# Altium schematic symbol library shutdown_circuit.SchLib: 45 symbols (part 1 of 3)
Pins are listed as number, name and electrical type; pins without a type are passive.

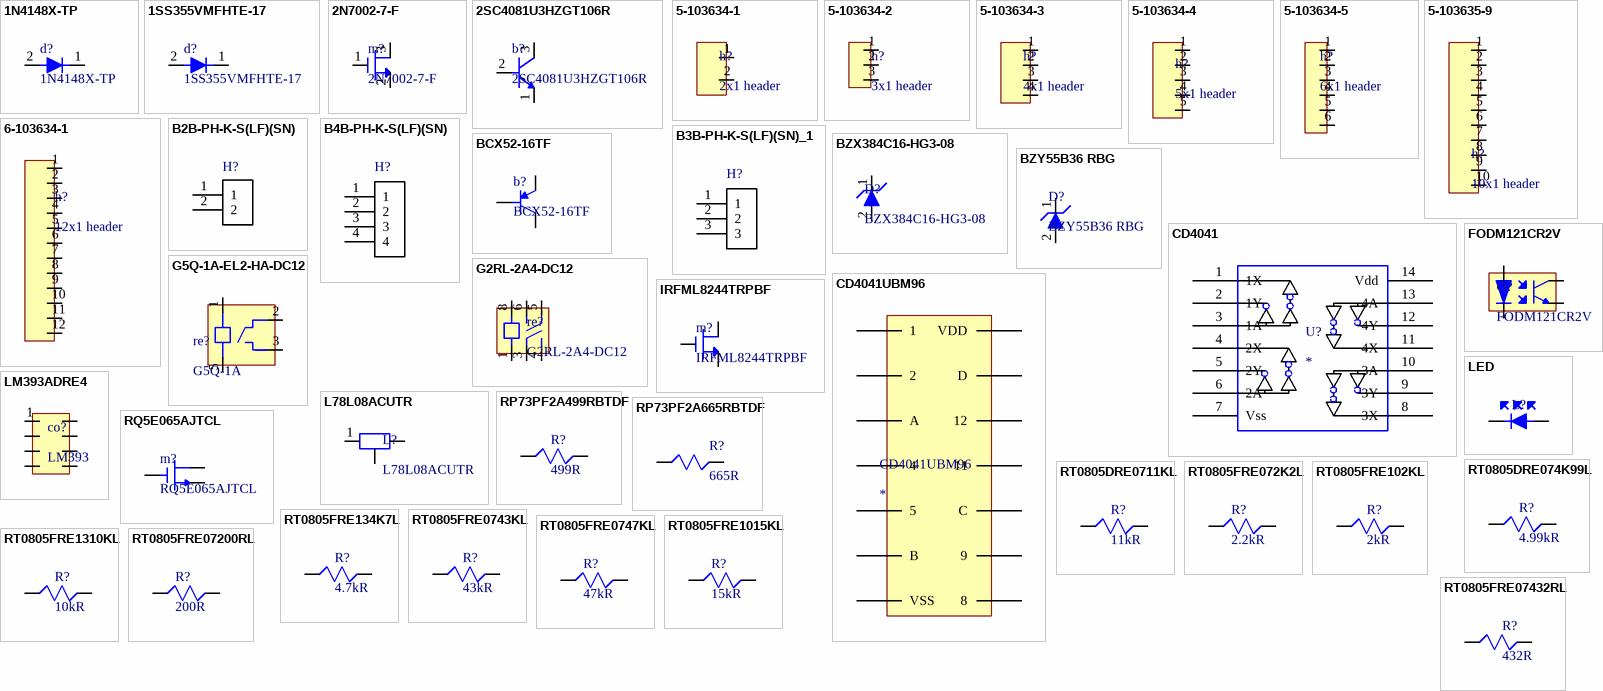
[diagram p0: symbols 1N4148X-TP to RT0805FRE07432RL]

## 1N4148X-TP
designator d?
1N4148X Series 100 V 300 mA 4 ns SMT High Speed Switching Diode - SOD-523; Manufacturer: MCC; Max Surge Current: 2A; Recovery Time: 4ns; Forward Voltage: 1.25V; Forward Current: 300mA; Average Rectified Current: 150mA; Max Reverse Leakage Current: 1uA; Power Dissipation: 200mW; Max Repetitive Reverse Voltage (Vrrm): 100V; Element Configuration: Single; Polarity: Standard; Voltage Rating (DC): 75V; Capacitance: 2pF; Supplier 1: Mouser; Supplier Part Number 1: 833-1N4148X-TP; Manufacturer Part Number: 1N4148X-TP; Stock 1: 130254; Pricing 1: 1 = 0.13000, 10 = 0.11900, 100 = 0.03900, 1000 = 0.02700, 2500 = 0.02300, 8000 = 0.01900 (USD); Mount: Surface Mount; Number of Pins: 2; Min Operating Temperature: -65°C; Max Operating Temperature: 150°C; Package Quantity: 1; Packaging: Tape and Reel; Reverse Recovery Time: 4ns; Peak Non-Repetitive Surge Current: 2A; Current Rating: 150mA; Output Current: 300mA; Max Reverse Voltage (DC): 75V; Radiation Hardening: No; Lead Free: Lead Free; ComponentLink1URL: https://datasheet.ciiva.com/4435/1n4148xsod-523-358-4435190.pdf?src-supplier=Mouser; ComponentLink1Description: https://datasheet.ciiva.com/4435/1n4148xsod-523-358-4435190.pdf?src-supplier=Mouser; ComponentLink2URL: https://datasheet.ciiva.com/911/1n4148xsod-523-911686.pdf?src-supplier=Digi-Key; ComponentLink2Description: https://datasheet.ciiva.com/911/1n4148xsod-523-911686.pdf?src-supplier=Digi-Key; ComponentLink3URL: https://datasheet.ciiva.com/911/1n4148xsod-523-911687.pdf?src-supplier=Digi-Key; ComponentLink3Description: https://datasheet.ciiva.com/911/1n4148xsod-523-911687.pdf?src-supplier=Digi-Key; ComponentLink4URL: https://datasheet.ciiva.com/911/1n4148xsod-523-911688.pdf?src-supplier=Digi-Key; ComponentLink4Description: https://datasheet.ciiva.com/911/1n4148xsod-523-911688.pdf?src-supplier=Digi-Key; ComponentLink5URL: https://datasheet.ciiva.com/16836/1n4148xsod-523-16836299.pdf?src-supplier=Future+Electronics; ComponentLink5Description: https://datasheet.ciiva.com/16836/1n4148xsod-523-16836299.pdf?src-supplier=Future+Electronics; ComponentLink6URL: http://datasheet.octopart.com/1N4148X-TP-Micro-Commercial-datasheet-126568.pdf?src-supplier=Digi-Key; ComponentLink6Description: http://datasheet.octopart.com/1N4148X-TP-Micro-Commercial-datasheet-126568.pdf?src-supplier=Digi-Key; ComponentLink7URL: http://datasheet.octopart.com/1N4148X-TP-MCC-datasheet-11734673.pdf?src-supplier=Arrow; ComponentLink7Description: http://datasheet.octopart.com/1N4148X-TP-MCC-datasheet-11734673.pdf?src-supplier=Arrow; ComponentLink8URL: http://datasheet.octopart.com/1N4148X-TP-Micro-Commercial-datasheet-13686636.pdf?src-supplier=Future+Electronics; ComponentLink8Description: http://datasheet.octopart.com/1N4148X-TP-Micro-Commercial-datasheet-13686636.pdf?src-supplier=Future+Electronics; ComponentLink9URL: http://datasheet.octopart.com/1N4148X-TP-MCC-datasheet-134792311.pdf?src-supplier=TME; ComponentLink9Description: http://datasheet.octopart.com/1N4148X-TP-MCC-datasheet-134792311.pdf?src-supplier=TME; catogory: diode
footprint SODFL160X77-2N (SODFL, 2-Leads, Body 0.80x1.60mm, IPC Medium Density)
pins: 1, 2

## 1SS355VMFHTE-17
designator d?
ROHM         1SS355VMFHTE-17             Small Signal Diode, Single, 90 V, 100 mA, 1.2 V, 4 ns, 500 mA; Max Repetitive Reverse Voltage (Vrrm): 90V; Forward Current: 100mA; Forward Voltage: 1.2V; Reverse Recovery Time: 4ns; Max Forward Surge Current (Ifsm): 500mA; Supplier 1: Mouser; Supplier Part Number 1: 755-1SS355VMFHTE-17; Manufacturer: Rohm; Manufacturer Part Number: 1SS355VMFHTE-17; RoHS: No; Stock 1: 46949; Pricing 1: 1 = 0.31000, 10 = 0.21200, 100 = 0.08900, 1000 = 0.06000, 3000 = 0.04700, 9000 = 0.04700 (USD); Case/Package: SOD; Number of Pins: 2; Max Operating Temperature: 150°C; Packaging: Cut Tape; Element Configuration: Single; REACH SVHC: Unknown; ComponentLink1URL: http://www.farnell.com/datasheets/2296360.pdf?src-supplier=Farnell; ComponentLink1Description: http://www.farnell.com/datasheets/2296360.pdf?src-supplier=Farnell; ComponentLink2URL: http://www.farnell.com/datasheets/2021474.pdf?src-supplier=Farnell; ComponentLink2Description: http://www.farnell.com/datasheets/2021474.pdf?src-supplier=Farnell; ComponentLink3URL: https://www.rohm.com/datasheet/1SS355VMFH/1ss355vmfhte-17-e?src-supplier=Digi-Key; ComponentLink3Description: https://www.rohm.com/datasheet/1SS355VMFH/1ss355vmfhte-17-e?src-supplier=Digi-Key; ComponentLink4URL: http://www.farnell.com/datasheets/2296360.pdf?src-supplier=Newark; ComponentLink4Description: http://www.farnell.com/datasheets/2296360.pdf?src-supplier=Newark; ComponentLink5URL: http://www.farnell.com/datasheets/2021474.pdf?src-supplier=Element14; ComponentLink5Description: http://www.farnell.com/datasheets/2021474.pdf?src-supplier=Element14; catagory: diode
footprint 1SS355VMFHTE-17
pins: 1 71, 2 70

## 2N7002-7-F
designator m?
Manufacturer: Diodes Inc.; Nominal Vgs: 2.5V; Max Power Dissipation: 300mW; Drain to Source Voltage (Vdss): 60V; Continuous Drain Current (ID): 115mA; Rise Time: 3ns; Rds On Max: 7.5R; Input Capacitance: 50pF; Number of Elements: 1; Drain to Source Breakdown Voltage: 70V; Gate to Source Voltage (Vgs): 20V; Fall Time: 5.6ns; Turn-Off Delay Time: 11ns; Turn-On Delay Time: 7ns; Power Dissipation: 540mW; Element Configuration: Single; Current: 115A; catagory: nmos; Supplier 1: Mouser; Supplier Part Number 1: 621-2N7002-F; Manufacturer Part Number: 2N7002-7-F; Stock 1: 2405582; Pricing 1: 1 = 0.10000, 10 = 0.03800, 100 = 0.02700, 1000 = 0.02700, 3000 = 0.02700, 9000 = 0.02500, 24000 = 0.02300, 45000 = 0.02000, 99000 = 0.01900 (USD); Mount: Surface Mount; Case/Package: SOT-23; Number of Pins: 3; Weight: 0.000282oz; Contact Plating: Tin; Min Operating Temperature: -55°C; Max Operating Temperature: 150°C; Packaging: Tape and Reel; Package Quantity: 3000; Dual Supply Voltage: 60V; Number of Channels: 1; Drain to Source Resistance: 7.5R; On-State Resistance: 7.5R; Threshold Voltage: 2.5V; Termination: SMD/SMT; Voltage Rating (DC): 60V; Current Rating: 115mA; Voltage: 60V; Length: 2.9mm; Height: 1mm; Width: 1.3mm; Radiation Hardening: No; REACH SVHC: No SVHC; Lead Free: Lead Free; ComponentLink1URL: https://datasheet.ciiva.com/3304/ds11303-3304385.pdf?src-supplier=Avnet; ComponentLink1Description: https://datasheet.ciiva.com/3304/ds11303-3304385.pdf?src-supplier=Avnet; ComponentLink2URL: https://datasheet.ciiva.com/15219/getdatasheetpartid-110059-15219667.pdf?src-supplier=Verical; ComponentLink2Description: https://datasheet.ciiva.com/15219/getdatasheetpartid-110059-15219667.pdf?src-supplier=Verical; ComponentLink3URL: https://datasheet.ciiva.com/49020/70437206-49020102.pdf?src-supplier=Allied+Electronics; ComponentLink3Description: https://datasheet.ciiva.com/49020/70437206-49020102.pdf?src-supplier=Allied+Electronics; ComponentLink4URL: https://datasheet.ciiva.com/22712/1915452-22712375.pdf?src-supplier=Element14; ComponentLink4Description: https://datasheet.ciiva.com/22712/1915452-22712375.pdf?src-supplier=Element14; ComponentLink5URL: https://datasheet.ciiva.com/1188/ds11303-1188363.pdf?src-supplier=Element14; ComponentLink5Description: https://datasheet.ciiva.com/1188/ds11303-1188363.pdf?src-supplier=Element14
footprint 2N7002-7-F
pins: 1 54, 2 56, 3 55

## 2SC4081U3HZGT106R
designator b?
General Purpose Transistor NPN 50V 150mA 3-Pin SOT-323 Surface Mount; Manufacturer: Rohm; catogory: bjt; Supplier 1: Mouser; Supplier Part Number 1: 755-SC4081U3HZGT106R; Manufacturer Part Number: 2SC4081U3HZGT106R; Stock 1: 6002; Pricing 1: 1 = 0.32000, 10 = 0.21600, 100 = 0.09000, 1000 = 0.06200, 3000 = 0.04800, 9000 = 0.04800 (USD)
pins: 1 16, 2 14, 3 15

## 5-103634-1
designator h?, comment 2x1 header
Conn Shrouded Header (4 Sides) HDR 2 POS 2.54mm Solder RA Thru-Hole Box/Tube; Manufacturer: TE Connectivity; Manufacturer Part Number: 5-103634-1; Current Rating: 3A; Contact Resistance: 15mR; Number of Positions: 2; Insulation Resistance: 5GR; Voltage Rating: 600V; Connector Type: Plug; Gender: Male; Backwall/Post Interruptions: No (Without); Contact Retention: Yes (With); Plating Thickness: 2.54um; PCB Mount Retention: Without; PCB Mounting Orientation: Right Angle; Row Spacing: 0.1inch; Tail Length: 3.3mm; Approvals: CSA; Supplier 1: Mouser; Supplier Part Number 1: 571-5-103634-1; Stock 1: 4974; Pricing 1: 1 = 0.67000, 10 = 0.56600, 100 = 0.50100, 500 = 0.43900, 1000 = 0.40900, 2500 = 0.36700, 10000 = 0.34500, 25000 = 0.32800 (USD); Mount: Through Hole; Contact Plating: Tin; Contact Material: Brass; Color: Black; Housing Color: Black; Housing Material: Thermoplastic; Contact Shape: Square; Min Operating Temperature: -65°C; Max Operating Temperature: 105°C; Number of Rows: 1; Contact Gender: Male; Package Quantity: 70; Packaging: Rail/Tube; Termination: Crimp; Number of Contacts: 2; Orientation: Right Angle; Mating Alignment: Yes (With); Mating Retention: Yes (With); PCB Mount Alignment: No (Without); Strain Relief: No (Without); Contact Current Rating: 3A; Length: 7.62mm; Height: 0.274inch; Pitch: 2.54mm; Contact Mating Length: 0.23inch; Depth: 13.59mm; Radiation Hardening: No; REACH SVHC: No SVHC; Flammability Rating: UL94 V-0; ELV: Compliant; Lead Free: Lead Free; ComponentLink1URL: https://datasheet.ciiva.com/16318/5-103634-1-16318798.pdf?src-supplier=Future+Electronics; ComponentLink1Description: https://datasheet.ciiva.com/16318/5-103634-1-16318798.pdf?src-supplier=Future+Electronics; ComponentLink2URL: https://datasheet.ciiva.com/7703/1651634-7703466.pdf?src-supplier=Element14; ComponentLink2Description: https://datasheet.ciiva.com/7703/1651634-7703466.pdf?src-supplier=Element14; ComponentLink3URL: https://datasheet.ciiva.com/3118/eng-cs-1307819-section-5-cont-0808-3118262.pdf?src-supplier=Avnet; ComponentLink3Description: https://datasheet.ciiva.com/3118/eng-cs-1307819-section-5-cont-0808-3118262.pdf?src-supplier=Avnet; ComponentLink4URL: https://datasheet.ciiva.com/709/eng-cd-103634-u2-709833.pdf?src-supplier=Digi-Key; ComponentLink4Description: https://datasheet.ciiva.com/709/eng-cd-103634-u2-709833.pdf?src-supplier=Digi-Key; ComponentLink5URL: http://datasheet.octopart.com/5-103634-1-TE-Connectivity-datasheet-11077636.pdf?src-supplier=Newark; ComponentLink5Description: http://datasheet.octopart.com/5-103634-1-TE-Connectivity-datasheet-11077636.pdf?src-supplier=Newark; ComponentLink6URL: http://datasheet.octopart.com/5-103634-1-TE-Connectivity-datasheet-136861139.pdf?src-supplier=ShanghaiCT; ComponentLink6Description: http://datasheet.octopart.com/5-103634-1-TE-Connectivity-datasheet-136861139.pdf?src-supplier=ShanghaiCT; ComponentLink7URL: http://datasheet.octopart.com/5-103634-1-TE-Connectivity-datasheet-8324834.pdf?src-supplier=Master+Electronics; ComponentLink7Description: http://datasheet.octopart.com/5-103634-1-TE-Connectivity-datasheet-8324834.pdf?src-supplier=Master+Electronics; ComponentLink8URL: http://sigma.octopart.com/15108092/technical_drawing/TE-Connectivity-5-103634-1.pdf?src-supplier=TE+Connectivity; ComponentLink8Description: http://sigma.octopart.com/15108092/technical_drawing/TE-Connectivity-5-103634-1.pdf?src-supplier=TE+Connectivity; ComponentLink9URL: http://sigma.octopart.com/101751519/technical_drawing/TE-Connectivity-5-103634-1.pdf?src-supplier=Future+Electronics; ComponentLink9Description: http://sigma.octopart.com/101751519/technical_drawing/TE-Connectivity-5-103634-1.pdf?src-supplier=Future+Electronics; ComponentLink10URL: http://sigma.octopart.com/77852267/technical_drawing/TE-Connectivity-5-103634-1.pdf?src-supplier=TE+Connectivity; ComponentLink10Description: http://sigma.octopart.com/77852267/technical_drawing/TE-Connectivity-5-103634-1.pdf?src-supplier=TE+Connectivity; ComponentLink11URL: http://datasheet.octopart.com/5-103634-1-Agastat-datasheet-13560061.pdf?src-supplier=TE+Connectivity; ComponentLink11Description: http://datasheet.octopart.com/5-103634-1-Agastat-datasheet-13560061.pdf?src-supplier=TE+Connectivity; ComponentLink12URL: http://datasheet.octopart.com/5-103634-1-Tyco-Electronics-datasheet-508243.pdf?src-supplier=Verical; ComponentLink12Description: http://datasheet.octopart.com/5-103634-1-Tyco-Electronics-datasheet-508243.pdf?src-supplier=Verical; ComponentLink13URL: http://datasheet.octopart.com/5-103634-1-Tyco-Electronics-datasheet-8817613.pdf?src-supplier=Verical; ComponentLink13Description: http://datasheet.octopart.com/5-103634-1-Tyco-Electronics-datasheet-8817613.pdf?src-supplier=Verical; ComponentLink14URL: http://datasheet.octopart.com/5-103634-1-TE-Connectivity-datasheet-21140140.pdf?src-supplier=Farnell; ComponentLink14Description: http://datasheet.octopart.com/5-103634-1-TE-Connectivity-datasheet-21140140.pdf?src-supplier=Farnell; catagory: header
footprint *TE_5-103634-1
pins: 1, 2

## 5-103634-2
designator h?, comment 3x1 header
Conn Shrouded Header (4 Sides) HDR 3 POS 2.54mm Solder RA Thru-Hole Automotive Tube; Manufacturer: TE Connectivity; Manufacturer Part Number: 5-103634-2; Contact Resistance: 15mR; Current Rating: 3A; Connector Type: Plug; Number of Positions: 3; Insulation Resistance: 5GR; Voltage Rating: 600V; Gender: Male; Backwall/Post Interruptions: No (Without); Contact Retention: Yes (With); Plating Thickness: 2.54um; PCB Mount Retention: Without; PCB Mounting Orientation: Right Angle; Row Spacing: 0.1inch; Tail Length: 3.3mm; Approvals: CSA; Supplier 1: Mouser; Supplier Part Number 1: 571-5-103634-2; Stock 1: 2067; Pricing 1: 1 = 0.99000, 10 = 0.91200, 100 = 0.80200, 500 = 0.69700, 1000 = 0.62700, 2500 = 0.55500, 10000 = 0.52100, 25000 = 0.49600, 50000 = 0.48300 (USD); Mount: Through Hole; Contact Plating: Tin; Contact Material: Brass; Color: Black; Housing Color: Black; Housing Material: Thermoplastic; Contact Shape: Square; Min Operating Temperature: -65°C; Max Operating Temperature: 105°C; Number of Rows: 1; Packaging: Rail/Tube; Contact Gender: Male; Package Quantity: 52; Termination: Crimp; Number of Contacts: 3; Orientation: Right Angle; Mating Alignment: Yes (With); Mating Retention: Yes (With); PCB Mount Alignment: No (Without); Strain Relief: No (Without); Contact Current Rating: 3A; Length: 0.4inch; Height: 13.59mm; Pitch: 2.54mm; Contact Mating Length: 0.23inch; Depth: 13.59mm; Radiation Hardening: No; REACH SVHC: No SVHC; ELV: Compliant; Lead Free: Lead Free; Flammability Rating: UL94 V-0; ComponentLink1URL: https://datasheet.ciiva.com/16684/eng-ds-4-1773458-0-ampmodu-mte-interconnect-sys-0810-16684821.pdf?src-supplier=Avnet+Europe; ComponentLink1Description: https://datasheet.ciiva.com/16684/eng-ds-4-1773458-0-ampmodu-mte-interconnect-sys-0810-16684821.pdf?src-supplier=Avnet+Europe; ComponentLink2URL: https://datasheet.ciiva.com/7703/1651634-7703467.pdf?src-supplier=Element14; ComponentLink2Description: https://datasheet.ciiva.com/7703/1651634-7703467.pdf?src-supplier=Element14; ComponentLink3URL: https://datasheet.ciiva.com/709/eng-cd-103634-u2-709935.pdf?src-supplier=Digi-Key; ComponentLink3Description: https://datasheet.ciiva.com/709/eng-cd-103634-u2-709935.pdf?src-supplier=Digi-Key; ComponentLink4URL: https://datasheet.ciiva.com/30064/eng-cs-1307819-section-5-cont-0808-30064086.pdf?src-supplier=Onlinecomponents.com; ComponentLink4Description: https://datasheet.ciiva.com/30064/eng-cs-1307819-section-5-cont-0808-30064086.pdf?src-supplier=Onlinecomponents.com; ComponentLink5URL: https://datasheet.ciiva.com/3118/eng-ds-4-1773458-0-ampmodu-mte-interconnect-sys-0411-3118263.pdf?src-supplier=Avnet; ComponentLink5Description: https://datasheet.ciiva.com/3118/eng-ds-4-1773458-0-ampmodu-mte-interconnect-sys-0411-3118263.pdf?src-supplier=Avnet; ComponentLink6URL: http://datasheet.octopart.com/5-103634-2-TE-Connectivity-datasheet-11077636.pdf?src-supplier=Newark; ComponentLink6Description: http://datasheet.octopart.com/5-103634-2-TE-Connectivity-datasheet-11077636.pdf?src-supplier=Newark; ComponentLink7URL: http://datasheet.octopart.com/5-103634-2-TE-Connectivity-datasheet-136861139.pdf?src-supplier=ShanghaiCT; ComponentLink7Description: http://datasheet.octopart.com/5-103634-2-TE-Connectivity-datasheet-136861139.pdf?src-supplier=ShanghaiCT; ComponentLink8URL: http://sigma.octopart.com/15108092/technical_drawing/TE-Connectivity-5-103634-2.pdf?src-supplier=TE+Connectivity; ComponentLink8Description: http://sigma.octopart.com/15108092/technical_drawing/TE-Connectivity-5-103634-2.pdf?src-supplier=TE+Connectivity; ComponentLink9URL: http://datasheet.octopart.com/5-103634-2-TE-Connectivity-datasheet-8324834.pdf?src-supplier=Electro+Sonic; ComponentLink9Description: http://datasheet.octopart.com/5-103634-2-TE-Connectivity-datasheet-8324834.pdf?src-supplier=Electro+Sonic; ComponentLink10URL: http://sigma.octopart.com/101751519/technical_drawing/TE-Connectivity-5-103634-2.pdf?src-supplier=ShanghaiCT; ComponentLink10Description: http://sigma.octopart.com/101751519/technical_drawing/TE-Connectivity-5-103634-2.pdf?src-supplier=ShanghaiCT; ComponentLink11URL: http://sigma.octopart.com/77852267/technical_drawing/TE-Connectivity-5-103634-2.pdf?src-supplier=TE+Connectivity; ComponentLink11Description: http://sigma.octopart.com/77852267/technical_drawing/TE-Connectivity-5-103634-2.pdf?src-supplier=TE+Connectivity; ComponentLink12URL: http://datasheet.octopart.com/5-103634-2-TE-Connectivity---AMP-datasheet-13560061.pdf?src-supplier=TE+Connectivity; ComponentLink12Description: http://datasheet.octopart.com/5-103634-2-TE-Connectivity---AMP-datasheet-13560061.pdf?src-supplier=TE+Connectivity; ComponentLink13URL: http://datasheet.octopart.com/5-103634-2-TE-Connectivity---AMP-datasheet-27832656.pdf?src-supplier=Farnell; ComponentLink13Description: http://datasheet.octopart.com/5-103634-2-TE-Connectivity---AMP-datasheet-27832656.pdf?src-supplier=Farnell; catagory: header
footprint *TE_5-103634-2
pins: 1 107, 2 108, 3 109

## 5-103634-3
designator h?, comment 4x1 header
Conn Shrouded Header (4 Sides) HDR 4 POS 2.54mm Solder RA Thru-Hole Box/Tube; Manufacturer: TE Connectivity; Manufacturer Part Number: 5-103634-3; Contact Resistance: 15mR; Current Rating: 3A; Voltage Rating: 250V; Number of Positions: 4; Insulation Resistance: 5GR; Connector Type: Plug; Backwall/Post Interruptions: No (Without); Contact Retention: Yes (With); Plating Thickness: 2.54um; PCB Mount Retention: Without; PCB Mounting Orientation: Right Angle; Row Spacing: 0.1inch; Tail Length: 3.3mm; Approvals: CSA; Supplier 1: Mouser; Supplier Part Number 1: 571-5-103634-3; Stock 1: 289; Pricing 1: 1 = 1.23000, 10 = 1.02000, 100 = 0.91700, 500 = 0.79700, 1000 = 0.72100, 2500 = 0.58900, 25000 = 0.58000, 50000 = 0.56600 (USD); Mount: Through Hole; Color: Black; Contact Plating: Tin; Contact Material: Brass; Housing Color: Black; Housing Material: Thermoplastic; Contact Shape: Square; Min Operating Temperature: -65°C; Max Operating Temperature: 105°C; Package Quantity: 42; Number of Rows: 1; Packaging: Rail/Tube; Contact Gender: Male; Termination: Crimp; Number of Contacts: 4; Orientation: Right Angle; Mating Alignment: Yes (With); Mating Retention: Yes (With); PCB Mount Alignment: No (Without); Strain Relief: No (Without); Contact Current Rating: 3A; Length: 12.7mm; Height: 13.59mm; Pitch: 2.54mm; Contact Mating Length: 0.23inch; Depth: 13.59mm; REACH SVHC: No SVHC; Flammability Rating: UL94 V-0; ComponentLink1URL: https://datasheet.ciiva.com/709/eng-cd-103634-u2-709984.pdf?src-supplier=Digi-Key; ComponentLink1Description: https://datasheet.ciiva.com/709/eng-cd-103634-u2-709984.pdf?src-supplier=Digi-Key; ComponentLink2URL: https://datasheet.ciiva.com/30493/0900766b80f9a687-30493821.pdf?src-supplier=RSComponents; ComponentLink2Description: https://datasheet.ciiva.com/30493/0900766b80f9a687-30493821.pdf?src-supplier=RSComponents; ComponentLink3URL: https://datasheet.ciiva.com/16497/eng-cs-1307819-section-5-cont-0808-16497095.pdf?src-supplier=Avnet+Asia; ComponentLink3Description: https://datasheet.ciiva.com/16497/eng-cs-1307819-section-5-cont-0808-16497095.pdf?src-supplier=Avnet+Asia; ComponentLink4URL: https://datasheet.ciiva.com/7800/1651634-7800366.pdf?src-supplier=Element14; ComponentLink4Description: https://datasheet.ciiva.com/7800/1651634-7800366.pdf?src-supplier=Element14; ComponentLink5URL: https://datasheet.ciiva.com/14644/70087799-14644933.pdf?src-supplier=Allied+Electronics; ComponentLink5Description: https://datasheet.ciiva.com/14644/70087799-14644933.pdf?src-supplier=Allied+Electronics; ComponentLink6URL: https://datasheet.ciiva.com/9484/eng-cs-1307819-section-5-cont-0808-9484872.pdf?src-supplier=Avnet; ComponentLink6Description: https://datasheet.ciiva.com/9484/eng-cs-1307819-section-5-cont-0808-9484872.pdf?src-supplier=Avnet; ComponentLink7URL: https://datasheet.ciiva.com/46442/1651634-46442506.pdf?src-supplier=Element14; ComponentLink7Description: https://datasheet.ciiva.com/46442/1651634-46442506.pdf?src-supplier=Element14; ComponentLink8URL: https://datasheet.ciiva.com/16355/eng-ds-4-1773458-0-ampmodu-mte-interconnect-sys-0411-16355979.pdf?src-supplier=Future+Electronics; ComponentLink8Description: https://datasheet.ciiva.com/16355/eng-ds-4-1773458-0-ampmodu-mte-interconnect-sys-0411-16355979.pdf?src-supplier=Future+Electronics; ComponentLink9URL: http://datasheet.octopart.com/5-103634-3-TE-Connectivity-datasheet-11077636.pdf?src-supplier=Newark; ComponentLink9Description: http://datasheet.octopart.com/5-103634-3-TE-Connectivity-datasheet-11077636.pdf?src-supplier=Newark; ComponentLink10URL: http://datasheet.octopart.com/5-103634-3-TE-Connectivity-datasheet-136861139.pdf?src-supplier=ShanghaiCT; ComponentLink10Description: http://datasheet.octopart.com/5-103634-3-TE-Connectivity-datasheet-136861139.pdf?src-supplier=ShanghaiCT; ComponentLink11URL: http://sigma.octopart.com/15108092/technical_drawing/TE-Connectivity-5-103634-3.pdf?src-supplier=Farnell; ComponentLink11Description: http://sigma.octopart.com/15108092/technical_drawing/TE-Connectivity-5-103634-3.pdf?src-supplier=Farnell; ComponentLink12URL: http://datasheet.octopart.com/5-103634-3-TE-Connectivity-datasheet-8324834.pdf?src-supplier=Master+Electronics; ComponentLink12Description: http://datasheet.octopart.com/5-103634-3-TE-Connectivity-datasheet-8324834.pdf?src-supplier=Master+Electronics; ComponentLink13URL: http://sigma.octopart.com/101751519/technical_drawing/TE-Connectivity-5-103634-3.pdf?src-supplier=Future+Electronics; ComponentLink13Description: http://sigma.octopart.com/101751519/technical_drawing/TE-Connectivity-5-103634-3.pdf?src-supplier=Future+Electronics; ComponentLink14URL: http://sigma.octopart.com/77852267/technical_drawing/TE-Connectivity-5-103634-3.pdf?src-supplier=TE+Connectivity; ComponentLink14Description: http://sigma.octopart.com/77852267/technical_drawing/TE-Connectivity-5-103634-3.pdf?src-supplier=TE+Connectivity; ComponentLink15URL: http://datasheet.octopart.com/5-103634-3-Agastat-datasheet-13560061.pdf?src-supplier=TE+Connectivity; ComponentLink15Description: http://datasheet.octopart.com/5-103634-3-Agastat-datasheet-13560061.pdf?src-supplier=TE+Connectivity; ComponentLink16URL: http://datasheet.octopart.com/5-103634-3-TE-Connectivity-datasheet-9653333.pdf?src-supplier=Allied+Electronics; ComponentLink16Description: http://datasheet.octopart.com/5-103634-3-TE-Connectivity-datasheet-9653333.pdf?src-supplier=Allied+Electronics; ComponentLink17URL: http://datasheet.octopart.com/5-103634-3-Tyco-Electronics-datasheet-508243.pdf?src-supplier=Future+Electronics; ComponentLink17Description: http://datasheet.octopart.com/5-103634-3-Tyco-Electronics-datasheet-508243.pdf?src-supplier=Future+Electronics; ComponentLink18URL: http://datasheet.octopart.com/5-103634-3-Tyco-Electronics-datasheet-8817613.pdf?src-supplier=Future+Electronics; ComponentLink18Description: http://datasheet.octopart.com/5-103634-3-Tyco-Electronics-datasheet-8817613.pdf?src-supplier=Future+Electronics; catagory: header
footprint *TE_5-103634-3
pins: 1 79, 2 80, 3 81, 4 82

## 5-103634-4
designator h?, comment 5x1 header
Ampmodu Mte Series; 2.54mm; Pitch 5 Way; Right Angle PCB Header; Solder Term; 3A; Manufacturer: TE Connectivity; Manufacturer Part Number: 5-103634-4; Contact Resistance: 15mR; Number of Positions: 5; Insulation Resistance: 5GR; Connector Type: Plug; Backwall/Post Interruptions: No (Without); Contact Retention: Yes (With); Plating Thickness: 2.54um; PCB Mount Retention: Without; Row Spacing: 0.1inch; Tail Length: 3.3mm; Approvals: CSA; Supplier 1: Mouser; Supplier Part Number 1: 571-5-103634-4; Stock 1: 5065; Pricing 1: 1 = 0.94000, 10 = 0.81700, 100 = 0.71200, 500 = 0.61400, 1000 = 0.57000, 2500 = 0.47900, 10000 = 0.42900, 25000 = 0.41300 (USD); Mount: Through Hole; Contact Plating: Tin; Contact Material: Brass; Color: Black; Housing Color: Black; Housing Material: Thermoplastic; Contact Shape: Square; Min Operating Temperature: -65°C; Max Operating Temperature: 105°C; Number of Rows: 1; Packaging: Rail/Tube; Current Rating: 3A; Package Quantity: 35; Contact Gender: Male; Termination: Crimp; Number of Contacts: 5; Orientation: Right Angle; Mating Alignment: Yes (With); Mating Retention: Yes (With); PCB Mount Alignment: No (Without); PCB Mounting Orientation: Right Angle; Strain Relief: No (Without); Contact Current Rating: 3A; Length: 0.6inch; Height: 13.59mm; Pitch: 2.54mm; Contact Mating Length: 0.23inch; Depth: 13.59mm; Radiation Hardening: No; REACH SVHC: No SVHC; Flammability Rating: UL94 V-0; ComponentLink1URL: https://datasheet.ciiva.com/16318/eng-cs-1307819-section-5-cont-0808-16318799.pdf?src-supplier=Future+Electronics; ComponentLink1Description: https://datasheet.ciiva.com/16318/eng-cs-1307819-section-5-cont-0808-16318799.pdf?src-supplier=Future+Electronics; ComponentLink2URL: https://datasheet.ciiva.com/11753/0900766b80f9a688-11753219.pdf?src-supplier=RSComponents; ComponentLink2Description: https://datasheet.ciiva.com/11753/0900766b80f9a688-11753219.pdf?src-supplier=RSComponents; ComponentLink3URL: https://datasheet.ciiva.com/714/eng-cd-103634-u2-714873.pdf?src-supplier=Digi-Key; ComponentLink3Description: https://datasheet.ciiva.com/714/eng-cd-103634-u2-714873.pdf?src-supplier=Digi-Key; ComponentLink4URL: https://datasheet.ciiva.com/30087/eng-cs-1307819-section-5-cont-0808-30087133.pdf?src-supplier=Onlinecomponents.com; ComponentLink4Description: https://datasheet.ciiva.com/30087/eng-cs-1307819-section-5-cont-0808-30087133.pdf?src-supplier=Onlinecomponents.com; ComponentLink5URL: http://datasheet.octopart.com/5-103634-4-TE-Connectivity-datasheet-11077636.pdf?src-supplier=Newark; ComponentLink5Description: http://datasheet.octopart.com/5-103634-4-TE-Connectivity-datasheet-11077636.pdf?src-supplier=Newark; ComponentLink6URL: http://datasheet.octopart.com/5-103634-4-TE-Connectivity-datasheet-136861139.pdf?src-supplier=ShanghaiCT; ComponentLink6Description: http://datasheet.octopart.com/5-103634-4-TE-Connectivity-datasheet-136861139.pdf?src-supplier=ShanghaiCT; ComponentLink7URL: http://datasheet.octopart.com/5-103634-4-TE-Connectivity-datasheet-8324834.pdf?src-supplier=Master+Electronics; ComponentLink7Description: http://datasheet.octopart.com/5-103634-4-TE-Connectivity-datasheet-8324834.pdf?src-supplier=Master+Electronics; ComponentLink8URL: http://sigma.octopart.com/15108092/technical_drawing/TE-Connectivity-5-103634-4.pdf?src-supplier=TE+Connectivity; ComponentLink8Description: http://sigma.octopart.com/15108092/technical_drawing/TE-Connectivity-5-103634-4.pdf?src-supplier=TE+Connectivity; ComponentLink9URL: http://sigma.octopart.com/101751519/technical_drawing/TE-Connectivity-5-103634-4.pdf?src-supplier=ShanghaiCT; ComponentLink9Description: http://sigma.octopart.com/101751519/technical_drawing/TE-Connectivity-5-103634-4.pdf?src-supplier=ShanghaiCT; ComponentLink10URL: http://sigma.octopart.com/77852267/technical_drawing/TE-Connectivity-5-103634-4.pdf?src-supplier=TE+Connectivity; ComponentLink10Description: http://sigma.octopart.com/77852267/technical_drawing/TE-Connectivity-5-103634-4.pdf?src-supplier=TE+Connectivity; ComponentLink11URL: http://datasheet.octopart.com/5-103634-4-Agastat-datasheet-13560061.pdf?src-supplier=TE+Connectivity; ComponentLink11Description: http://datasheet.octopart.com/5-103634-4-Agastat-datasheet-13560061.pdf?src-supplier=TE+Connectivity; ComponentLink12URL: http://datasheet.octopart.com/5-103634-4-Tyco-Electronics-datasheet-11553078.pdf?src-supplier=Arrow; ComponentLink12Description: http://datasheet.octopart.com/5-103634-4-Tyco-Electronics-datasheet-11553078.pdf?src-supplier=Arrow; ComponentLink13URL: http://datasheet.octopart.com/5-103634-4-TE-Connectivity---AMP-datasheet-8817613.pdf?src-supplier=Sager+Electronics; ComponentLink13Description: http://datasheet.octopart.com/5-103634-4-TE-Connectivity---AMP-datasheet-8817613.pdf?src-supplier=Sager+Electronics; catagory: header
footprint 5x1 header
pins: 1 72, 2 73, 3 74, 4 75, 5 76

## 5-103634-5
designator h?, comment 6x1 header
Conn Shrouded Header (4 Sides) HDR 6 POS 2.54mm Solder RA Thru-Hole Box/Tube; Manufacturer: TE Connectivity; Manufacturer Part Number: 5-103634-5; Current Rating: 3A; Contact Resistance: 15mR; Number of Positions: 6; Insulation Resistance: 5GR; Voltage Rating: 600V; Connector Type: Plug; Gender: Male; Backwall/Post Interruptions: No (Without); Contact Retention: Yes (With); Plating Thickness: 2.54um; PCB Mount Retention: Without; PCB Mounting Orientation: Right Angle; Row Spacing: 0.1inch; Tail Length: 3.3mm; Approvals: CSA; Supplier 1: Mouser; Supplier Part Number 1: 571-5-103634-5; Stock 1: 4129; Pricing 1: 1 = 1.44000, 10 = 1.23000, 100 = 1.04000, 500 = 0.97400, 1000 = 0.82500, 2500 = 0.78000 (USD); Mount: Through Hole; Color: Black; Contact Plating: Tin; Contact Material: Brass; Housing Color: Black; Housing Material: Thermoplastic; Contact Shape: Square; Min Operating Temperature: -65°C; Max Operating Temperature: 105°C; Package Quantity: 30; Number of Rows: 1; Packaging: Rail/Tube; Contact Gender: Male; Termination: Crimp; Number of Contacts: 6; Orientation: Right Angle; Mating Alignment: Yes (With); Mating Retention: Yes (With); PCB Mount Alignment: No (Without); Strain Relief: No (Without); Contact Current Rating: 3A; Length: 17.78mm; Height: 0.274inch; Pitch: 2.54mm; Contact Mating Length: 0.23inch; Depth: 13.59mm; Radiation Hardening: No; REACH SVHC: Unknown; Flammability Rating: UL94 V-0; ELV: Compliant; Lead Free: Lead Free; ComponentLink1URL: https://datasheet.ciiva.com/712/eng-cd-103634-u2-712933.pdf?src-supplier=Digi-Key; ComponentLink1Description: https://datasheet.ciiva.com/712/eng-cd-103634-u2-712933.pdf?src-supplier=Digi-Key; ComponentLink2URL: https://datasheet.ciiva.com/30082/eng-cs-1307819-section-5-cont-0808-30082583.pdf?src-supplier=Onlinecomponents.com; ComponentLink2Description: https://datasheet.ciiva.com/30082/eng-cs-1307819-section-5-cont-0808-30082583.pdf?src-supplier=Onlinecomponents.com; ComponentLink3URL: https://datasheet.ciiva.com/9467/eng-cs-1307819-section-5-cont-0808-9467566.pdf?src-supplier=Avnet; ComponentLink3Description: https://datasheet.ciiva.com/9467/eng-cs-1307819-section-5-cont-0808-9467566.pdf?src-supplier=Avnet; ComponentLink4URL: https://datasheet.ciiva.com/16684/eng-cs-1307819-section-5-cont-0808-16684334.pdf?src-supplier=Avnet+Europe; ComponentLink4Description: https://datasheet.ciiva.com/16684/eng-cs-1307819-section-5-cont-0808-16684334.pdf?src-supplier=Avnet+Europe; ComponentLink5URL: https://datasheet.ciiva.com/7800/1651634-7800367.pdf?src-supplier=Element14; ComponentLink5Description: https://datasheet.ciiva.com/7800/1651634-7800367.pdf?src-supplier=Element14; ComponentLink6URL: http://datasheet.octopart.com/5-103634-5-TE-Connectivity-datasheet-11077636.pdf?src-supplier=Master+Electronics; ComponentLink6Description: http://datasheet.octopart.com/5-103634-5-TE-Connectivity-datasheet-11077636.pdf?src-supplier=Master+Electronics; ComponentLink7URL: http://datasheet.octopart.com/5-103634-5-TE-Connectivity-datasheet-136861139.pdf?src-supplier=ShanghaiCT; ComponentLink7Description: http://datasheet.octopart.com/5-103634-5-TE-Connectivity-datasheet-136861139.pdf?src-supplier=ShanghaiCT; ComponentLink8URL: http://datasheet.octopart.com/5-103634-5-TE-Connectivity-datasheet-8324834.pdf?src-supplier=Master+Electronics; ComponentLink8Description: http://datasheet.octopart.com/5-103634-5-TE-Connectivity-datasheet-8324834.pdf?src-supplier=Master+Electronics; ComponentLink9URL: http://sigma.octopart.com/15108092/technical_drawing/TE-Connectivity-5-103634-5.pdf?src-supplier=Factory+Futures; ComponentLink9Description: http://sigma.octopart.com/15108092/technical_drawing/TE-Connectivity-5-103634-5.pdf?src-supplier=Factory+Futures; ComponentLink10URL: http://sigma.octopart.com/101751519/technical_drawing/TE-Connectivity-5-103634-5.pdf?src-supplier=ShanghaiCT; ComponentLink10Description: http://sigma.octopart.com/101751519/technical_drawing/TE-Connectivity-5-103634-5.pdf?src-supplier=ShanghaiCT; ComponentLink11URL: http://sigma.octopart.com/77852267/technical_drawing/TE-Connectivity-5-103634-5.pdf?src-supplier=TE+Connectivity; ComponentLink11Description: http://sigma.octopart.com/77852267/technical_drawing/TE-Connectivity-5-103634-5.pdf?src-supplier=TE+Connectivity; ComponentLink12URL: http://datasheet.octopart.com/5-103634-5-TE-Connectivity---AMP-datasheet-13560061.pdf?src-supplier=TE+Connectivity; ComponentLink12Description: http://datasheet.octopart.com/5-103634-5-TE-Connectivity---AMP-datasheet-13560061.pdf?src-supplier=TE+Connectivity; catagory: header
footprint 6x1 header
pins: 1 110, 2 111, 3 112, 4 113, 5 114, 6 115

## 5-103635-9
designator h?, comment 10x1 header
Conn Shrouded Header (4 Sides) HDR 10 POS 2.54mm Solder RA Thru-Hole Box/Tube; Manufacturer: TE Connectivity; Manufacturer Part Number: 5-103635-9; Body Material: Thermoplastic; Contact Resistance: 15mR; Current Rating: 3A; Voltage Rating: 250V; Number of Positions: 10; Insulation Resistance: 5GR; Connector Type: Plug; Backwall/Post Interruptions: No (Without); Contact Retention: Yes (With); Plating Thickness: 2.54um; PCB Mount Retention: Without; PCB Mounting Orientation: Right Angle; Row Spacing: 0.1inch; Tail Length: 3.3mm; Approvals: CSA; Supplier 1: Mouser; Supplier Part Number 1: 571-5-103635-9; Stock 1: 3062; Pricing 1: 1 = 1.90000, 10 = 1.65000, 100 = 1.45000, 500 = 1.32000, 1000 = 1.13000, 2500 = 1.06000, 5000 = 0.99700, 10000 = 0.96600, 25000 = 0.92600 (USD); Mount: Through Hole; Contact Plating: Gold; Contact Material: Brass; Color: Black; Housing Color: Black; Housing Material: Thermoplastic; Contact Shape: Square; Min Operating Temperature: -65°C; Max Operating Temperature: 105°C; Number of Rows: 1; Package Quantity: 19; Packaging: Rail/Tube; Contact Gender: Male; Termination: Crimp; Number of Contacts: 10; Orientation: Right Angle; Mating Alignment: Yes (With); Mating Retention: Yes (With); PCB Mount Alignment: No (Without); Strain Relief: No (Without); Contact Current Rating: 3A; Length: 27.94mm; Height: 13.59mm; Lead Pitch: 2.54mm; Width: 1.1inch; Pitch: 2.54mm; Contact Mating Length: 0.23inch; Depth: 13.59mm; Radiation Hardening: No; REACH SVHC: No SVHC; Flammability Rating: UL94 V-0; ComponentLink1URL: https://datasheet.ciiva.com/16317/eng-ds-4-1773458-0-ampmodu-mte-interconnect-sys-0411-16317946.pdf?src-supplier=Future+Electronics; ComponentLink1Description: https://datasheet.ciiva.com/16317/eng-ds-4-1773458-0-ampmodu-mte-interconnect-sys-0411-16317946.pdf?src-supplier=Future+Electronics; ComponentLink2URL: https://datasheet.ciiva.com/30493/0900766b80f9a693-30493834.pdf?src-supplier=RSComponents; ComponentLink2Description: https://datasheet.ciiva.com/30493/0900766b80f9a693-30493834.pdf?src-supplier=RSComponents; ComponentLink3URL: https://datasheet.ciiva.com/710/eng-cd-103635-s2-710226.pdf?src-supplier=Digi-Key; ComponentLink3Description: https://datasheet.ciiva.com/710/eng-cd-103635-s2-710226.pdf?src-supplier=Digi-Key; ComponentLink4URL: https://datasheet.ciiva.com/9467/eng-ds-4-1773458-0-ampmodu-mte-interconnect-sys-0810-9467574.pdf?src-supplier=Avnet; ComponentLink4Description: https://datasheet.ciiva.com/9467/eng-ds-4-1773458-0-ampmodu-mte-interconnect-sys-0810-9467574.pdf?src-supplier=Avnet; ComponentLink5URL: https://datasheet.ciiva.com/16683/eng-ds-4-1773458-0-ampmodu-mte-interconnect-sys-0810-16683878.pdf?src-supplier=Avnet+Europe; ComponentLink5Description: https://datasheet.ciiva.com/16683/eng-ds-4-1773458-0-ampmodu-mte-interconnect-sys-0810-16683878.pdf?src-supplier=Avnet+Europe; ComponentLink6URL: https://datasheet.ciiva.com/14645/70087896-14645738.pdf?src-supplier=Allied+Electronics; ComponentLink6Description: https://datasheet.ciiva.com/14645/70087896-14645738.pdf?src-supplier=Allied+Electronics; ComponentLink7URL: http://datasheet.octopart.com/5-103635-9-TE-Connectivity-datasheet-11077636.pdf?src-supplier=Newark; ComponentLink7Description: http://datasheet.octopart.com/5-103635-9-TE-Connectivity-datasheet-11077636.pdf?src-supplier=Newark; ComponentLink8URL: http://datasheet.octopart.com/5-103635-9-TE-Connectivity-datasheet-136861139.pdf?src-supplier=ShanghaiCT; ComponentLink8Description: http://datasheet.octopart.com/5-103635-9-TE-Connectivity-datasheet-136861139.pdf?src-supplier=ShanghaiCT; ComponentLink9URL: http://sigma.octopart.com/15108146/technical_drawing/TE-Connectivity-5-103635-9.pdf?src-supplier=TE+Connectivity; ComponentLink9Description: http://sigma.octopart.com/15108146/technical_drawing/TE-Connectivity-5-103635-9.pdf?src-supplier=TE+Connectivity; ComponentLink10URL: http://datasheet.octopart.com/5-103635-9-TE-Connectivity-datasheet-8324834.pdf?src-supplier=Electro+Sonic; ComponentLink10Description: http://datasheet.octopart.com/5-103635-9-TE-Connectivity-datasheet-8324834.pdf?src-supplier=Electro+Sonic; ComponentLink11URL: http://sigma.octopart.com/101748647/technical_drawing/TE-Connectivity-5-103635-9.pdf?src-supplier=Future+Electronics; ComponentLink11Description: http://sigma.octopart.com/101748647/technical_drawing/TE-Connectivity-5-103635-9.pdf?src-supplier=Future+Electronics; ComponentLink12URL: http://datasheet.octopart.com/5-103635-9-Tyco-Electronics-datasheet-13560061.pdf?src-supplier=TE+Connectivity; ComponentLink12Description: http://datasheet.octopart.com/5-103635-9-Tyco-Electronics-datasheet-13560061.pdf?src-supplier=TE+Connectivity; ComponentLink13URL: http://sigma.octopart.com/67302833/technical_drawing/TE-Connectivity-5-103635-9.pdf?src-supplier=TE+Connectivity; ComponentLink13Description: http://sigma.octopart.com/67302833/technical_drawing/TE-Connectivity-5-103635-9.pdf?src-supplier=TE+Connectivity; ComponentLink14URL: http://datasheet.octopart.com/5-103635-9-TE-Connectivity-datasheet-9738451.pdf?src-supplier=Allied+Electronics; ComponentLink14Description: http://datasheet.octopart.com/5-103635-9-TE-Connectivity-datasheet-9738451.pdf?src-supplier=Allied+Electronics; ComponentLink15URL: http://datasheet.octopart.com/5-103635-9-Tyco-Electronics-datasheet-5388418.pdf?src-supplier=Farnell; ComponentLink15Description: http://datasheet.octopart.com/5-103635-9-Tyco-Electronics-datasheet-5388418.pdf?src-supplier=Farnell; ComponentLink16URL: http://datasheet.octopart.com/5-103635-9-Tyco-Electronics-datasheet-8817976.pdf?src-supplier=Farnell; ComponentLink16Description: http://datasheet.octopart.com/5-103635-9-Tyco-Electronics-datasheet-8817976.pdf?src-supplier=Farnell; ComponentLink17URL: http://datasheet.octopart.com/5-103635-9-Tyco-Electronics-datasheet-13544711.pdf?src-supplier=Farnell; ComponentLink17Description: http://datasheet.octopart.com/5-103635-9-Tyco-Electronics-datasheet-13544711.pdf?src-supplier=Farnell; catagory: header
footprint 10x1 header
pins: 1 85, 2 86, 3 87, 4 88, 5 89, 6 90, 7 91, 8 92, 9 93, 10 94

## 6-103634-1
designator h?, comment 12x1 header
Conn Shrouded Header (4 Sides) HDR 12 POS 2.54mm Solder RA Thru-Hole Box/Tube; Manufacturer: TE Connectivity; Manufacturer Part Number: 6-103634-1; Contact Resistance: 15mR; Current Rating: 3A; Number of Positions: 12; Insulation Resistance: 5GR; Connector Type: Plug; Gender: Male; Backwall/Post Interruptions: No (Without); Contact Retention: Yes (With); Plating Thickness: 2.54um; PCB Mount Retention: Without; PCB Mounting Orientation: Right Angle; Row Spacing: 0.1inch; Tail Length: 3.3mm; Approvals: CSA; Supplier 1: Mouser; Supplier Part Number 1: 571-6-103634-1; Stock 1: 360; Pricing 1: 1 = 2.00000, 10 = 1.64000, 100 = 1.45000, 500 = 1.42000, 1000 = 1.22000, 2500 = 1.17000, 5000 = 1.06000, 10000 = 1.01000, 25000 = 0.99200 (USD); Mount: Through Hole; Contact Plating: Tin; Contact Material: Brass; Color: Black; Housing Color: Black; Housing Material: Thermoplastic; Contact Shape: Square; Min Operating Temperature: -65°C; Max Operating Temperature: 105°C; Number of Rows: 1; Packaging: Rail/Tube; Package Quantity: 16; Contact Gender: Male; Termination: Crimp; Number of Contacts: 12; Orientation: Right Angle; Mating Alignment: Yes (With); Mating Retention: Yes (With); PCB Mount Alignment: No (Without); Strain Relief: No (Without); Contact Current Rating: 3A; Length: 33.02mm; Height: 13.59mm; Pitch: 2.54mm; Contact Mating Length: 0.23inch; Depth: 13.59mm; Radiation Hardening: No; REACH SVHC: No SVHC; Flammability Rating: UL94 V-0; ELV: Compliant; Lead Free: Lead Free; ComponentLink1URL: https://datasheet.ciiva.com/16683/eng-cs-1307819-section-5-cont-0808-16683693.pdf?src-supplier=Avnet+Europe; ComponentLink1Description: https://datasheet.ciiva.com/16683/eng-cs-1307819-section-5-cont-0808-16683693.pdf?src-supplier=Avnet+Europe; ComponentLink2URL: https://datasheet.ciiva.com/46442/1829818-46442173.pdf?src-supplier=Element14; ComponentLink2Description: https://datasheet.ciiva.com/46442/1829818-46442173.pdf?src-supplier=Element14; ComponentLink3URL: https://datasheet.ciiva.com/9467/eng-cs-1307819-section-5-cont-0808-9467326.pdf?src-supplier=Avnet; ComponentLink3Description: https://datasheet.ciiva.com/9467/eng-cs-1307819-section-5-cont-0808-9467326.pdf?src-supplier=Avnet; ComponentLink4URL: https://datasheet.ciiva.com/710/eng-cd-103634-u2-710259.pdf?src-supplier=Digi-Key; ComponentLink4Description: https://datasheet.ciiva.com/710/eng-cd-103634-u2-710259.pdf?src-supplier=Digi-Key; ComponentLink5URL: http://datasheet.octopart.com/6-103634-1-TE-Connectivity-datasheet-11077636.pdf?src-supplier=Newark; ComponentLink5Description: http://datasheet.octopart.com/6-103634-1-TE-Connectivity-datasheet-11077636.pdf?src-supplier=Newark; ComponentLink6URL: http://datasheet.octopart.com/6-103634-1-TE-Connectivity-datasheet-136861139.pdf?src-supplier=ShanghaiCT; ComponentLink6Description: http://datasheet.octopart.com/6-103634-1-TE-Connectivity-datasheet-136861139.pdf?src-supplier=ShanghaiCT; ComponentLink7URL: http://datasheet.octopart.com/6-103634-1-TE-Connectivity-datasheet-8324834.pdf?src-supplier=Master+Electronics; ComponentLink7Description: http://datasheet.octopart.com/6-103634-1-TE-Connectivity-datasheet-8324834.pdf?src-supplier=Master+Electronics; ComponentLink8URL: http://sigma.octopart.com/15108092/technical_drawing/TE-Connectivity-6-103634-1.pdf?src-supplier=Factory+Futures; ComponentLink8Description: http://sigma.octopart.com/15108092/technical_drawing/TE-Connectivity-6-103634-1.pdf?src-supplier=Factory+Futures; ComponentLink9URL: http://sigma.octopart.com/101751519/technical_drawing/TE-Connectivity-6-103634-1.pdf?src-supplier=ShanghaiCT; ComponentLink9Description: http://sigma.octopart.com/101751519/technical_drawing/TE-Connectivity-6-103634-1.pdf?src-supplier=ShanghaiCT; ComponentLink10URL: http://sigma.octopart.com/77852267/technical_drawing/TE-Connectivity-6-103634-1.pdf?src-supplier=TE+Connectivity; ComponentLink10Description: http://sigma.octopart.com/77852267/technical_drawing/TE-Connectivity-6-103634-1.pdf?src-supplier=TE+Connectivity; ComponentLink11URL: http://datasheet.octopart.com/6-103634-1-TE-Connectivity---AMP-datasheet-13560061.pdf?src-supplier=TE+Connectivity; ComponentLink11Description: http://datasheet.octopart.com/6-103634-1-TE-Connectivity---AMP-datasheet-13560061.pdf?src-supplier=TE+Connectivity; ComponentLink12URL: http://datasheet.octopart.com/6-103634-1-TE-Connectivity---AMP-datasheet-27832660.pdf?src-supplier=Newark; ComponentLink12Description: http://datasheet.octopart.com/6-103634-1-TE-Connectivity---AMP-datasheet-27832660.pdf?src-supplier=Newark; ComponentLink13URL: http://datasheet.octopart.com/6-103634-1-Tyco-Electronics-datasheet-508243.pdf?src-supplier=Future+Electronics; ComponentLink13Description: http://datasheet.octopart.com/6-103634-1-Tyco-Electronics-datasheet-508243.pdf?src-supplier=Future+Electronics; ComponentLink14URL: http://datasheet.octopart.com/6-103634-1-Tyco-Electronics-datasheet-8817613.pdf?src-supplier=Future+Electronics; ComponentLink14Description: http://datasheet.octopart.com/6-103634-1-Tyco-Electronics-datasheet-8817613.pdf?src-supplier=Future+Electronics; catagory: header
footprint 12x1 header
pins: 1 95, 2 96, 3 97, 4 98, 5 99, 6 100, 7 101, 8 102, 9 103, 10 104, 11 105, 12 106

## B2B-PH-K-S(LF)(SN)
designator H?  (value not drawn)
Connector Header Through Hole 2 position 0.079 _2.00mm_; MF: JST Sales; MP: B2B-PH-K-S_LF__SN_; Availability: Unavailable; Package: None; Price: None; SnapEDA_Link: https://www.snapeda.com/parts/B2B-PH-K-S%28LF%29%28SN%29/JST%20Sales%20America%20Inc./view-part/424103/?ref=snap; Value: *
footprint *JST_B2B-PH-K-S(LF)(SN)
pins: 1, 2

## B3B-PH-K-S(LF)(SN)_1
designator H?, comment B3B-PH-K-S(LF)(SN)  (value not drawn)
Connector Header Through Hole 3 position 0.079 _2.00mm_; MP: B3B-PH-K-S_LF__SN_; MF: JST Sales; SnapEDA_Link: https://www.snapeda.com/parts/B4B-PH-K-S%28LF%29%28SN%29/JST%20Sales%20America%20Inc./view-part/422410/?ref=snap; Package: None; Price: None; Availability: Unavailable; Value: *
footprint *JST_B3B-PH-K-S(LF)(SN)
pins: 1, 2, 3

## B4B-PH-K-S(LF)(SN)
designator H?  (value not drawn)
Connector Header Through Hole 4 position 0.079 _2.00mm_; MP: B4B-PH-K-S_LF__SN_; MF: JST Sales; SnapEDA_Link: https://www.snapeda.com/parts/B4B-PH-K-S%28LF%29%28SN%29/JST%20Sales%20America%20Inc./view-part/422410/?ref=snap; Package: None; Price: None; Availability: Unavailable; Value: *
footprint *JST_B4B-PH-K-S(LF)(SN) - duplicate
pins: 1, 2, 3, 4

## BCX52-16TF
designator b?
Prices include import duty and tax. TRANS, AECQ101, PNP, -60V, -1A, 150DEG C;; Manufacturer: Nexperia; catagory: pnpBJT; Supplier 1: Mouser; Supplier Part Number 1: 771-BCX52-16TF; Manufacturer Part Number: BCX52-16TF; Stock 1: 3975; Pricing 1: 1 = 0.38000, 10 = 0.25800, 100 = 0.10700, 1000 = 0.07300, 4000 = 0.05700, 8000 = 0.04800, 24000 = 0.04600, 48000 = 0.04300, 100000 = 0.03700 (USD); ComponentLink1URL: http://datasheet.octopart.com/BCX52-16TF-Nexperia-datasheet-137005208.pdf?src-supplier=Nexperia; ComponentLink1Description: http://datasheet.octopart.com/BCX52-16TF-Nexperia-datasheet-137005208.pdf?src-supplier=Nexperia
footprint BCX52-16TF
pins: 1 63, 2 61, 3 62

## BZX384C16-HG3-08
designator D?
Manufacturer: Vishay; catagory: diode; Supplier 1: Mouser; Supplier Part Number 1: 78-BZX384C16-HG3-08; Manufacturer Part Number: BZX384C16-HG3-08; Stock 1: 14950; Pricing 1: 1 = 0.29000, 10 = 0.19400, 100 = 0.09500, 500 = 0.08100, 1000 = 0.05300, 3000 = 0.04800, 6000 = 0.04200, 9000 = 0.03500, 24000 = 0.03300 (USD)
footprint BZX384C16-HG3-08
pins: 1 53, 2 54

## BZY55B36 RBG
designator D?
Manufacturer: Taiwan Semiconductor; catagory: diode; Supplier 1: Mouser; Supplier Part Number 1: 821-BZY55B36RBG; Manufacturer Part Number: BZY55B36 RBG
footprint BZY55B36 RBG
pins: 1 47, 2 48

## CD4041
designator U?
Buffer 4-CH Inverting/Non-Inverting Push-Pull CMOS 14-Pin SOIC-14 Tube
footprint SOIC127P600X175-14N
pins: 1 1X, 2 1Y, 3 1A, 4 2X, 5 2Y, 6 2A, 7 Vss, 8 3X, 9 3Y, 10 3A, 11 4X, 12 4Y, 13 4A, 14 Vdd